# Altium footprint library RA-08H.PcbLib: 3 footprints
Each footprint in its own frame and in the unit in brackets; x right, y up, seen from the top. Pads: shape width x height; smd on the part's side, far side on the other; paste and mask are expansions set on the pad; w line width, h text height; cw(c..) or ccw(c..) is an arc to the next point about the centre after c.
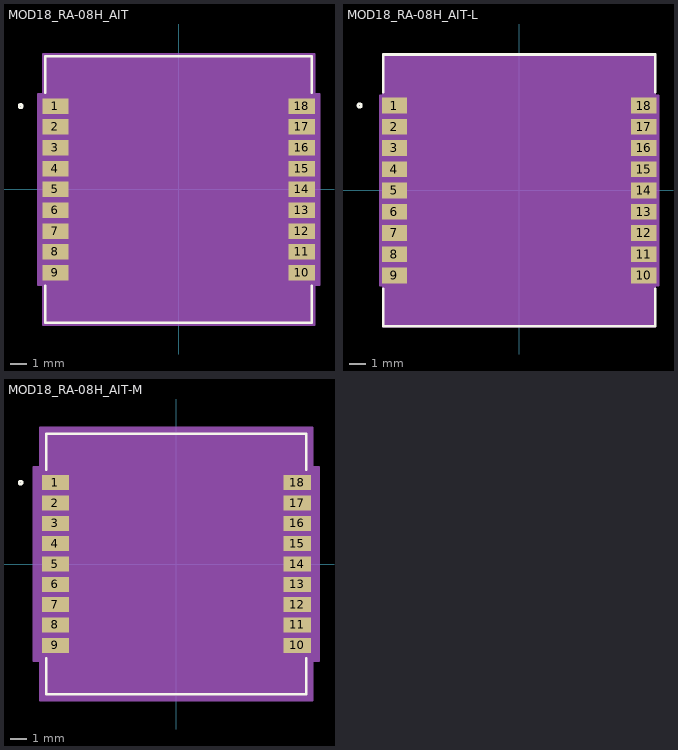
[diagram p0: the footprints below, top view; thin cyan lines are the x and y axes]

## MOD18_RA-08H_AIT [mil]
pads (18):
  rect 63x37 smd paste+0 mask+0: 1(-295.5,200) 2(-295.5,150) 3(-295.5,100) 4(-295.5,50) 5(-295.5,0) 6(-295.5,-50) 7(-295.5,-100) 8(-295.5,-150) 9(-295.5,-200) 10(295.5,-200) 11(295.5,-150) 12(295.5,-100) 13(295.5,-50) 14(295.5,0) 15(295.5,50) 16(295.5,100) 17(295.5,150) 18(295.5,200)
Top Overlay:
  circle w6: c-379,200 r4
  lines w6: -320,-231.6 -320,-320 320,-320 320,-231.6 ; -320,231.6 -320,320 320,320 320,231.6
Mechanical 13:
  circle w0: c-264,200 r3
  lines w0: -12,315 ccw(c0,315) 12,315
  lines w1: -315,-315 315,-315 315,315 -315,315 -315,-315
Mechanical 15:
  region: -325,-228.5 -337,-228.5 -337,228.5 -325,228.5 -325,325 325,325 325,228.5 337,228.5 337,-228.5 325,-228.5 325,-325 -325,-325
  lines w6: -337,-228.5 -337,228.5 -325,228.5 -325,325 325,325 325,228.5 337,228.5 337,-228.5 325,-228.5 325,-325 -325,-325 -325,-228.5 -337,-228.5
3D body "MOD18_RA-08H_AIT.step": height 134.09, standoff 0, extent -315,-315 315,315

## MOD18_RA-08H_AIT-L [mil]
pads (18):
  rect 59x37 smd paste+0 mask+0: 1(-293.5,200) 2(-293.5,150) 3(-293.5,100) 4(-293.5,50) 5(-293.5,0) 6(-293.5,-50) 7(-293.5,-100) 8(-293.5,-150) 9(-293.5,-200) 10(293.5,-200) 11(293.5,-150) 12(293.5,-100) 13(293.5,-50) 14(293.5,0) 15(293.5,50) 16(293.5,100) 17(293.5,150) 18(293.5,200)
Top Overlay:
  circle w6: c-375,200 r4
  lines w6: -320,-231.6 -320,-320 320,-320 320,-231.6 ; -320,231.6 -320,320 320,320 320,231.6
Mechanical 13:
  circle w0: c-264,200 r3
  lines w0: -12,315 ccw(c0,315) 12,315
  lines w1: -315,-315 315,-315 315,315 -315,315 -315,-315
Mechanical 15:
  region: -319,-222.5 -327,-222.5 -327,222.5 -319,222.5 -319,319 319,319 319,222.5 327,222.5 327,-222.5 319,-222.5 319,-319 -319,-319
  lines w6: -327,-222.5 -327,222.5 -319,222.5 -319,319 319,319 319,222.5 327,222.5 327,-222.5 319,-222.5 319,-319 -319,-319 -319,-222.5 -327,-222.5
3D body "MOD18_RA-08H_AIT.step": height 134.09, standoff 0, extent -315,-315 315,315

## MOD18_RA-08H_AIT-M [mil]
pads (18):
  rect 67x37 smd paste+0 mask+0: 1(-297.5,200) 2(-297.5,150) 3(-297.5,100) 4(-297.5,50) 5(-297.5,0) 6(-297.5,-50) 7(-297.5,-100) 8(-297.5,-150) 9(-297.5,-200) 10(297.5,-200) 11(297.5,-150) 12(297.5,-100) 13(297.5,-50) 14(297.5,0) 15(297.5,50) 16(297.5,100) 17(297.5,150) 18(297.5,200)
Top Overlay:
  circle w6: c-383,200 r4
  lines w6: -320,-231.6 -320,-320 320,-320 320,-231.6 ; -320,231.6 -320,320 320,320 320,231.6
Mechanical 13:
  circle w0: c-264,200 r3
  lines w0: -12,315 ccw(c0,315) 12,315
  lines w1: -315,-315 315,-315 315,315 -315,315 -315,-315
Mechanical 15:
  region: -335,-238.5 -351,-238.5 -351,238.5 -335,238.5 -335,335 335,335 335,238.5 351,238.5 351,-238.5 335,-238.5 335,-335 -335,-335
  lines w6: -351,-238.5 -351,238.5 -335,238.5 -335,335 335,335 335,238.5 351,238.5 351,-238.5 335,-238.5 335,-335 -335,-335 -335,-238.5 -351,-238.5
3D body "MOD18_RA-08H_AIT.step": height 134.09, standoff 0, extent -315,-315 315,315